# Altium footprint library WR-TBL_Spring Clamp_7.00mm.PcbLib: 32 footprints (part 1 of 2)
Each footprint in its own frame and in the unit in brackets; x right, y up, seen from the top. Pads: shape width x height; smd on the part's side, far side on the other; paste and mask are expansions set on the pad; w line width, h text height; cw(c..) or ccw(c..) is an arc to the next point about the centre after c.
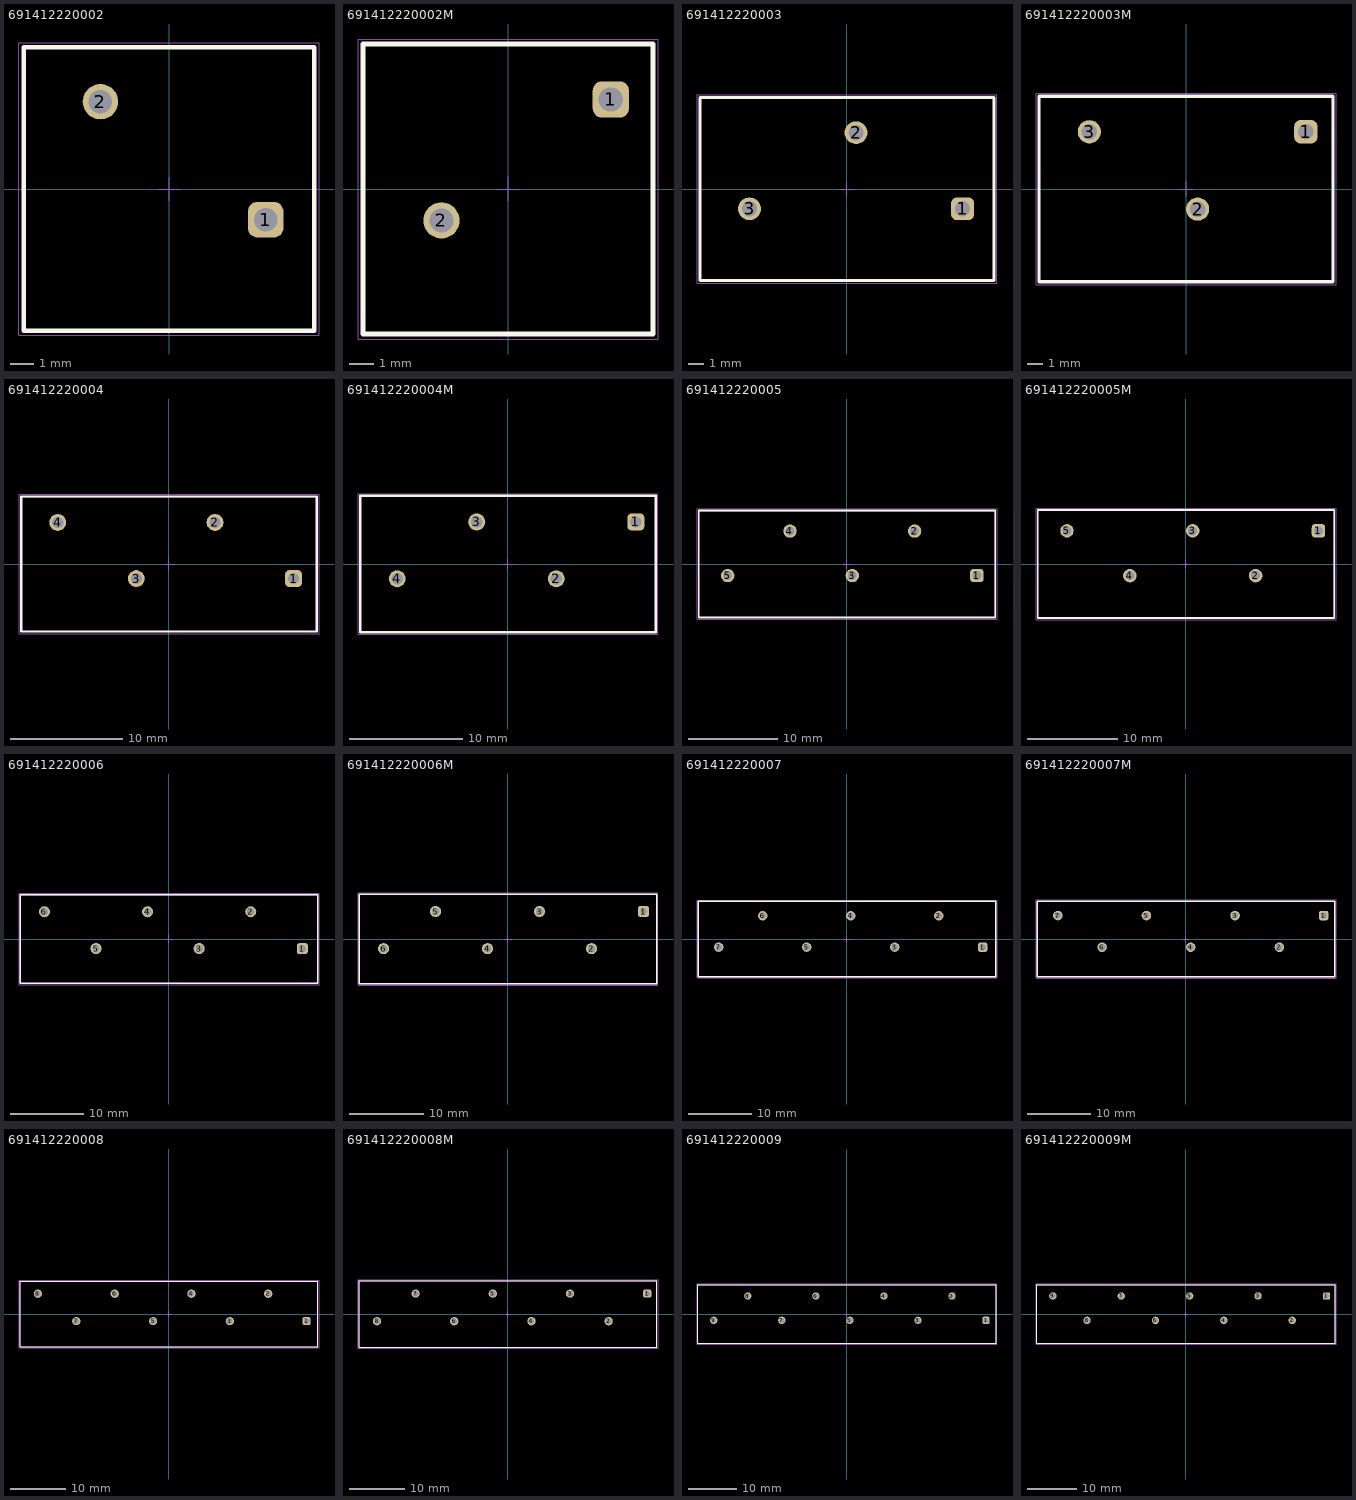
[diagram p0: the footprints below, top view; thin cyan lines are the x and y axes]

## 691412220002 [mm] "7.00 mm Screwless 45deg Entry, 2p"
height 13.2
pads (2):
  rrect50% 1.5x1.5 hole 1: 1(4.095,-1.3)
  round 1.5 hole 1: 2(-2.905,3.7)
Top Overlay:
  lines w0.2: -6.155,-6 -6.155,6 6.155,6 6.155,-6 -6.155,-6
Top Designator:
  text ".Designator" at -7.498,-0.5 h1.5
Top Component Outline:
  lines w0.1: -6.155,-6 6.155,-6 6.155,6 -6.155,6 -6.155,-6
Top 3D Body:
  lines w0.1: -6.155,-6 -6.155,6 6.155,6 6.155,-6 -6.155,-6
Top Courtyard:
  lines w0.05: -6.355,-6.2 6.355,-6.2 6.355,6.2 -6.355,6.2 -6.355,-6.2
Top Component Center:
  lines w0.05: -0.5,0 0.5,0 ; 0,-0.5 0,0.5
3D body "691412220002.stp": height 13.28, standoff -3.52, extent -6.155,-6 6.155,6

## 691412220002M [mm] "7.00 mm Screwless 45deg Entry Mirror Version, 2p"
height 13.2
pads (2):
  rrect50% 1.5x1.5 hole 1: 1(4.25,3.7)
  round 1.5 hole 1: 2(-2.75,-1.3)
Top Overlay:
  lines w0.2: -6,-6 -6,6 6,6 6,-6 -6,-6
Top Designator:
  text ".Designator" at -7.498,-0.5 h1.5
Top Component Outline:
  lines w0.1: -6,-6 6,-6 6,6 -6,6 -6,-6
Top 3D Body:
  lines w0.1: -6,-6 -6,6 6,6 6,-6 -6,-6
Top Courtyard:
  lines w0.05: -6.2,-6.2 -6.2,6.2 6.2,6.2 6.2,-6.2 -6.2,-6.2
Top Component Center:
  lines w0.05: -0.5,0 0.5,0 ; 0,-0.5 0,0.5
3D body "691412220002M.stp": height 13.28, standoff -3.52, extent -6,-6 6,6

## 691412220003 [mm] "7.00 mm Screwless 45deg Entry, 3p"
height 13.2
pads (3):
  rrect50% 1.5x1.5 hole 1: 1(7.595,-1.3)
  round 1.5 hole 1: 2(0.595,3.7) 3(-6.405,-1.3)
Top Overlay:
  lines w0.2: -9.655,-6 -9.655,6 9.655,6 9.655,-6 -9.655,-6
Top Designator:
  text ".Designator" at -7.498,-0.5 h1.5
Top Component Outline:
  lines w0.1: -9.655,-6 9.655,-6 9.655,6 -9.655,6 -9.655,-6
Top 3D Body:
  lines w0.1: -9.655,-6 -9.655,6 9.655,6 9.655,-6 -9.655,-6
Top Courtyard:
  lines w0.05: -9.855,-6.2 9.855,-6.2 9.855,6.2 -9.855,6.2 -9.855,-6.2
Top Component Center:
  lines w0.05: -0.5,0 0.5,0 ; 0,-0.5 0,0.5
3D body "691412220003.stp": height 13.28, standoff -3.52, extent -9.655,-6 9.655,6

## 691412220003M [mm] "7.00 mm Screwless 45deg Entry Mirror Version, 3p"
height 13.2
pads (3):
  rrect50% 1.5x1.5 hole 1: 1(7.75,3.7)
  round 1.5 hole 1: 2(0.75,-1.3) 3(-6.25,3.7)
Top Overlay:
  lines w0.2: -9.5,-6 9.5,-6 9.5,6 -9.5,6 -9.5,-6
Top Designator:
  text ".Designator" at -7.498,-0.5 h1.5
Top Component Outline:
  lines w0.1: -9.5,-6 -9.5,6 9.5,6 9.5,-6 -9.5,-6
Top 3D Body:
  lines w0.1: -9.5,-6 9.5,-6 9.5,6 -9.5,6 -9.5,-6
Top Courtyard:
  lines w0.05: -9.7,-6.2 9.7,-6.2 9.7,6.2 -9.7,6.2 -9.7,-6.2
Top Component Center:
  lines w0.05: -0.5,0 0.5,0 ; 0,-0.5 0,0.5
3D body "691412220003M.stp": height 13.28, standoff -3.52, extent -9.5,-6 9.5,6

## 691412220004 [mm] "7.00 mm Screwless 45deg Entry, 4p"
height 13.2
pads (4):
  rrect50% 1.5x1.5 hole 1: 1(11.095,-1.3)
  round 1.5 hole 1: 2(4.095,3.7) 3(-2.905,-1.3) 4(-9.905,3.7)
Top Overlay:
  lines w0.2: -13.155,-6 13.155,-6 13.155,6 -13.155,6 -13.155,-6
Top Designator:
  text ".Designator" at -7.498,-0.5 h1.5
Top Component Outline:
  lines w0.1: -13.155,-6 -13.155,6 13.155,6 13.155,-6 -13.155,-6
Top 3D Body:
  lines w0.1: -13.155,-6 13.155,-6 13.155,6 -13.155,6 -13.155,-6
Top Courtyard:
  lines w0.05: -13.355,-6.2 -13.355,6.2 13.355,6.2 13.355,-6.2 -13.355,-6.2
Top Component Center:
  lines w0.05: -0.5,0 0.5,0 ; 0,-0.5 0,0.5
3D body "691412220004.stp": height 13.28, standoff -3.52, extent -13.155,-6 13.155,6

## 691412220004M [mm] "7.00 mm Screwless 45deg Entry Mirror Version, 4p"
height 13.2
pads (4):
  rrect50% 1.5x1.5 hole 1: 1(11.25,3.7)
  round 1.5 hole 1: 2(4.25,-1.3) 3(-2.75,3.7) 4(-9.75,-1.3)
Top Overlay:
  lines w0.2: -13,-6 13,-6 13,6 -13,6 -13,-6
Top Designator:
  text ".Designator" at -7.498,-0.5 h1.5
Top Component Outline:
  lines w0.1: -13,-6 -13,6 13,6 13,-6 -13,-6
Top 3D Body:
  lines w0.1: -13,-6 13,-6 13,6 -13,6 -13,-6
Top Courtyard:
  lines w0.05: -13.2,-6.2 13.2,-6.2 13.2,6.2 -13.2,6.2 -13.2,-6.2
Top Component Center:
  lines w0.05: -0.5,0 0.5,0 ; 0,-0.5 0,0.5
3D body "691412220004M.stp": height 13.28, standoff -3.52, extent -13,-6 13,6

## 691412220005 [mm] "7.00 mm Screwless 45deg Entry, 5p"
height 13.2
pads (5):
  rrect50% 1.5x1.5 hole 1: 1(14.595,-1.3)
  round 1.5 hole 1: 2(7.595,3.7) 3(0.595,-1.3) 4(-6.405,3.7) 5(-13.405,-1.3)
Top Overlay:
  lines w0.2: -16.655,-6 -16.655,6 16.655,6 16.655,-6 -16.655,-6
Top Designator:
  text ".Designator" at -7.498,-0.5 h1.5
Top Component Outline:
  lines w0.1: -16.655,-6 16.655,-6 16.655,6 -16.655,6 -16.655,-6
Top 3D Body:
  lines w0.1: -16.655,-6 -16.655,6 16.655,6 16.655,-6 -16.655,-6
Top Courtyard:
  lines w0.05: -16.855,-6.2 16.855,-6.2 16.855,6.2 -16.855,6.2 -16.855,-6.2
Top Component Center:
  lines w0.05: -0.5,0 0.5,0 ; 0,-0.5 0,0.5
3D body "691412220005.stp": height 13.28, standoff -3.52, extent -16.655,-6 16.655,6

## 691412220005M [mm] "7.00 mm Screwless 45deg Entry Mirror Version, 5p"
height 13.2
pads (5):
  rrect50% 1.5x1.5 hole 1: 1(14.75,3.7)
  round 1.5 hole 1: 2(7.75,-1.3) 3(0.75,3.7) 4(-6.25,-1.3) 5(-13.25,3.7)
Top Overlay:
  lines w0.2: -16.5,-6 -16.5,6 16.5,6 16.5,-6 -16.5,-6
Top Designator:
  text ".Designator" at -7.498,-0.5 h1.5
Top Component Outline:
  lines w0.1: -16.5,-6 16.5,-6 16.5,6 -16.5,6 -16.5,-6
Top 3D Body:
  lines w0.1: -16.5,-6 -16.5,6 16.5,6 16.5,-6 -16.5,-6
Top Courtyard:
  lines w0.05: -16.7,-6.2 -16.7,6.2 16.7,6.2 16.7,-6.2 -16.7,-6.2
Top Component Center:
  lines w0.05: -0.5,0 0.5,0 ; 0,-0.5 0,0.5
3D body "691412220005M.stp": height 13.28, standoff -3.52, extent -16.5,-6 16.5,6

## 691412220006 [mm] "7.00 mm Screwless 45deg Entry, 6p"
height 13.2
pads (6):
  rrect50% 1.5x1.5 hole 1: 1(18.095,-1.3)
  round 1.5 hole 1: 2(11.095,3.7) 3(4.095,-1.3) 4(-2.905,3.7) 5(-9.905,-1.3) 6(-16.905,3.7)
Top Overlay:
  lines w0.2: -20.155,-6 20.155,-6 20.155,6 -20.155,6 -20.155,-6
Top Designator:
  text ".Designator" at -7.498,-0.5 h1.5
Top Component Outline:
  lines w0.1: -20.155,-6 -20.155,6 20.155,6 20.155,-6 -20.155,-6
Top 3D Body:
  lines w0.1: -20.155,-6 20.155,-6 20.155,6 -20.155,6 -20.155,-6
Top Courtyard:
  lines w0.05: -20.355,-6.2 -20.355,6.2 20.355,6.2 20.355,-6.2 -20.355,-6.2
Top Component Center:
  lines w0.05: -0.5,0 0.5,0 ; 0,-0.5 0,0.5
3D body "691412220006.stp": height 13.28, standoff -3.52, extent -20.155,-6 20.155,6

## 691412220006M [mm] "7.00 mm Screwless 45deg Entry Mirror Version, 6p"
height 13.2
pads (6):
  rrect50% 1.5x1.5 hole 1: 1(18.25,3.7)
  round 1.5 hole 1: 2(11.25,-1.3) 3(4.25,3.7) 4(-2.75,-1.3) 5(-9.75,3.7) 6(-16.75,-1.3)
Top Overlay:
  lines w0.2: -20,-6 -20,6 20,6 20,-6 -20,-6
Top Designator:
  text ".Designator" at -7.498,-0.5 h1.5
Top Component Outline:
  lines w0.1: -20,-6 20,-6 20,6 -20,6 -20,-6
Top 3D Body:
  lines w0.1: -20,-6 -20,6 20,6 20,-6 -20,-6
Top Courtyard:
  lines w0.05: -20.2,-6.2 -20.2,6.2 20.2,6.2 20.2,-6.2 -20.2,-6.2
Top Component Center:
  lines w0.05: -0.5,0 0.5,0 ; 0,-0.5 0,0.5
3D body "691412220006M.stp": height 13.28, standoff -3.52, extent -20,-6 20,6

## 691412220007 [mm] "7.00 mm Screwless 45deg Entry, 7p"
height 13.2
pads (7):
  rrect50% 1.5x1.5 hole 1: 1(21.595,-1.3)
  round 1.5 hole 1: 2(14.595,3.7) 3(7.595,-1.3) 4(0.595,3.7) 5(-6.405,-1.3) 6(-13.405,3.7) 7(-20.405,-1.3)
Top Overlay:
  lines w0.2: -23.655,-6 -23.655,6 23.655,6 23.655,-6 -23.655,-6
Top Designator:
  text ".Designator" at -7.498,-0.5 h1.5
Top Component Outline:
  lines w0.1: -23.655,-6 23.655,-6 23.655,6 -23.655,6 -23.655,-6
Top 3D Body:
  lines w0.1: -23.655,-6 -23.655,6 23.655,6 23.655,-6 -23.655,-6
Top Courtyard:
  lines w0.05: -23.855,-6.2 23.855,-6.2 23.855,6.2 -23.855,6.2 -23.855,-6.2
Top Component Center:
  lines w0.05: -0.5,0 0.5,0 ; 0,-0.5 0,0.5
3D body "691412220007.stp": height 13.28, standoff -3.52, extent -23.655,-6 23.655,6

## 691412220007M [mm] "7.00 mm Screwless 45deg Entry Mirror Version, 7p"
height 13.2
pads (7):
  rrect50% 1.5x1.5 hole 1: 1(21.75,3.7)
  round 1.5 hole 1: 2(14.75,-1.3) 3(7.75,3.7) 4(0.75,-1.3) 5(-6.25,3.7) 6(-13.25,-1.3) 7(-20.25,3.7)
Top Overlay:
  lines w0.2: -23.5,-6 23.5,-6 23.5,6 -23.5,6 -23.5,-6
Top Designator:
  text ".Designator" at -7.498,-0.5 h1.5
Top Component Outline:
  lines w0.1: -23.5,-6 -23.5,6 23.5,6 23.5,-6 -23.5,-6
Top 3D Body:
  lines w0.1: -23.5,-6 23.5,-6 23.5,6 -23.5,6 -23.5,-6
Top Courtyard:
  lines w0.05: -23.7,-6.2 23.7,-6.2 23.7,6.2 -23.7,6.2 -23.7,-6.2
Top Component Center:
  lines w0.05: -0.5,0 0.5,0 ; 0,-0.5 0,0.5
3D body "691412220007M.stp": height 13.28, standoff -3.52, extent -23.5,-6 23.5,6

## 691412220008 [mm] "7.00 mm Screwless 45deg Entry, 8p"
height 13.2
pads (8):
  rrect50% 1.5x1.5 hole 1: 1(25.095,-1.3)
  round 1.5 hole 1: 2(18.095,3.7) 3(11.095,-1.3) 4(4.095,3.7) 5(-2.905,-1.3) 6(-9.905,3.7) 7(-16.905,-1.3) 8(-23.905,3.7)
Top Overlay:
  lines w0.2: -27.155,-6 -27.155,6 27.155,6 27.155,-6 -27.155,-6
Top Designator:
  text ".Designator" at -7.498,-0.5 h1.5
Top Component Outline:
  lines w0.1: -27.155,-6 27.155,-6 27.155,6 -27.155,6 -27.155,-6
Top 3D Body:
  lines w0.1: -27.155,-6 -27.155,6 27.155,6 27.155,-6 -27.155,-6
Top Courtyard:
  lines w0.05: -27.355,-6.2 27.355,-6.2 27.355,6.2 -27.355,6.2 -27.355,-6.2
Top Component Center:
  lines w0.05: -0.5,0 0.5,0 ; 0,-0.5 0,0.5
3D body "691412220008.stp": height 13.28, standoff -3.52, extent -27.155,-6 27.155,6

## 691412220008M [mm] "7.00 mm Screwless 45deg Entry Mirror Version, 8p"
height 13.2
pads (8):
  rrect50% 1.5x1.5 hole 1: 1(25.25,3.7)
  round 1.5 hole 1: 2(18.25,-1.3) 3(11.25,3.7) 4(4.25,-1.3) 5(-2.75,3.7) 6(-9.75,-1.3) 7(-16.75,3.7) 8(-23.75,-1.3)
Top Overlay:
  lines w0.2: -27,-6 27,-6 27,6 -27,6 -27,-6
Top Designator:
  text ".Designator" at -7.498,-0.5 h1.5
Top Component Outline:
  lines w0.1: -27,-6 -27,6 27,6 27,-6 -27,-6
Top 3D Body:
  lines w0.1: -27,-6 27,-6 27,6 -27,6 -27,-6
Top Courtyard:
  lines w0.05: -27.2,-6.2 27.2,-6.2 27.2,6.2 -27.2,6.2 -27.2,-6.2
Top Component Center:
  lines w0.05: -0.5,0 0.5,0 ; 0,-0.5 0,0.5
3D body "691412220008M.stp": height 13.28, standoff -3.52, extent -27,-6 27,6

## 691412220009 [mm] "7.00 mm Screwless 45deg Entry, 9p"
height 13.2
pads (9):
  rrect50% 1.5x1.5 hole 1: 1(28.595,-1.3)
  round 1.5 hole 1: 2(21.595,3.7) 3(14.595,-1.3) 4(7.595,3.7) 5(0.595,-1.3) 6(-6.405,3.7) 7(-13.405,-1.3) 8(-20.405,3.7) 9(-27.405,-1.3)
Top Overlay:
  lines w0.2: -30.655,-6 -30.655,6 30.655,6 30.655,-6 -30.655,-6
Top Designator:
  text ".Designator" at -7.498,-0.5 h1.5
Top Component Outline:
  lines w0.1: -30.655,-6 30.655,-6 30.655,6 -30.655,6 -30.655,-6
Top 3D Body:
  lines w0.1: -30.655,-6 -30.655,6 30.655,6 30.655,-6 -30.655,-6
Top Courtyard:
  lines w0.05: -30.855,-6.2 30.855,-6.2 30.855,6.2 -30.855,6.2 -30.855,-6.2
Top Component Center:
  lines w0.05: -0.5,0 0.5,0 ; 0,-0.5 0,0.5
3D body "691412220009.stp": height 13.28, standoff -3.52, extent -30.655,-6 30.655,6

## 691412220009M [mm] "7.00 mm Screwless 45deg Entry Mirror Version, 9p"
height 13.2
pads (9):
  rrect50% 1.5x1.5 hole 1: 1(28.75,3.7)
  round 1.5 hole 1: 2(21.75,-1.3) 3(14.75,3.7) 4(7.75,-1.3) 5(0.75,3.7) 6(-6.25,-1.3) 7(-13.25,3.7) 8(-20.25,-1.3) 9(-27.25,3.7)
Top Overlay:
  lines w0.2: -30.5,-6 30.5,-6 30.5,6 -30.5,6 -30.5,-6
Top Designator:
  text ".Designator" at -7.498,-0.5 h1.5
Top Component Outline:
  lines w0.1: -30.5,-6 -30.5,6 30.5,6 30.5,-6 -30.5,-6
Top 3D Body:
  lines w0.1: -30.5,-6 30.5,-6 30.5,6 -30.5,6 -30.5,-6
Top Courtyard:
  lines w0.05: -30.7,-6.2 30.7,-6.2 30.7,6.2 -30.7,6.2 -30.7,-6.2
Top Component Center:
  lines w0.05: -0.5,0 0.5,0 ; 0,-0.5 0,0.5
3D body "691412220009M.stp": height 13.28, standoff -3.52, extent -30.5,-6 30.5,6